# Altium schematic symbol library lab3.2.SchLib: 15 symbols
Pins are listed as number, name and electrical type; pins without a type are passive.

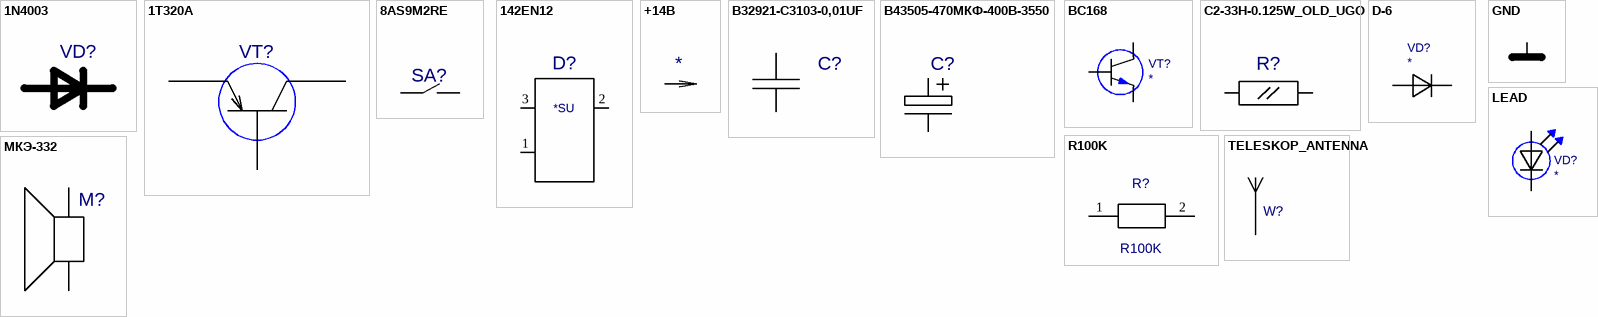
[diagram p0: symbols 1N4003 to МКЭ-332]

## 1N4003
designator VD?  (value not drawn)
Value: *
footprint DO-41(DO-204AL)
pins: A 1, K 2

## 1Т320А
designator VT?  (value not drawn)
Value: *
footprint ГТ320Б
pins: 1 E, 2 K, 3 B

## 8AS9M2RE
designator SA?  (value not drawn)
Value: *
footprint 8AS9M2RE
pins: 1, 2

## 142EN12
designator D?  (value not drawn)
Value: *
footprint KR142EN
pins: 1 Upr, 2 OUT0, 3 IN0
text: *SU

## +14B
designator PWR?  (value not drawn)
Value: *
pins: 1 +14B (power)

## B32921-C3103-0,01UF
designator C?  (value not drawn)
Value: *
footprint B32921(13X4)
pins: 1, 2

## B43505-470МКФ-400В-3550
designator C?  (value not drawn)
Value: *
footprint B43505-3550
pins: 1, 2, 3 hidden

## BC168
designator VT?  (value not drawn)
Value: *
footprint TO-92
pins: 1, 2, 3

## C2-33H-0.125W_OLD_UGO
designator R?  (value not drawn)
Value: *
footprint C2-33H-0.125W
pins: 1, 2

## D-6
designator VD?  (value not drawn)
Value: *
footprint D6
pins: 1, 2

## GND
designator PWR?  (value not drawn)
Value: *
pins: 1 GND (power)

## LEAD
designator VD?  (value not drawn)
Value: *
footprint HL5
pins: 1, 2

## R100K
designator R?
Value: *
footprint R100
pins: 1, 2

## TELESKOP_ANTENNA
designator W?  (value not drawn)
Value: *
footprint TELESKOP_ANTENNA
pins: 1

## МКЭ-332
designator M?  (value not drawn)
Value: *
footprint МКЭ-332
pins: 1 I/O1, 2 I/O2